# Altium schematic symbol library LED_RED.SchLib: 1 symbol
Pins are listed as number, name and electrical type; pins without a type are passive.

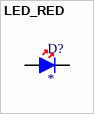
[diagram p0: symbol LED_RED]

## LED_RED
designator D?
pins: 1 K, 2 A